# Altium footprint library Crystal_SMD.PcbLib: 3 footprints
Each footprint in its own frame and in the unit in brackets; x right, y up, seen from the top. Pads: shape width x height; smd on the part's side, far side on the other; paste and mask are expansions set on the pad; w line width, h text height; cw(c..) or ccw(c..) is an arc to the next point about the centre after c.
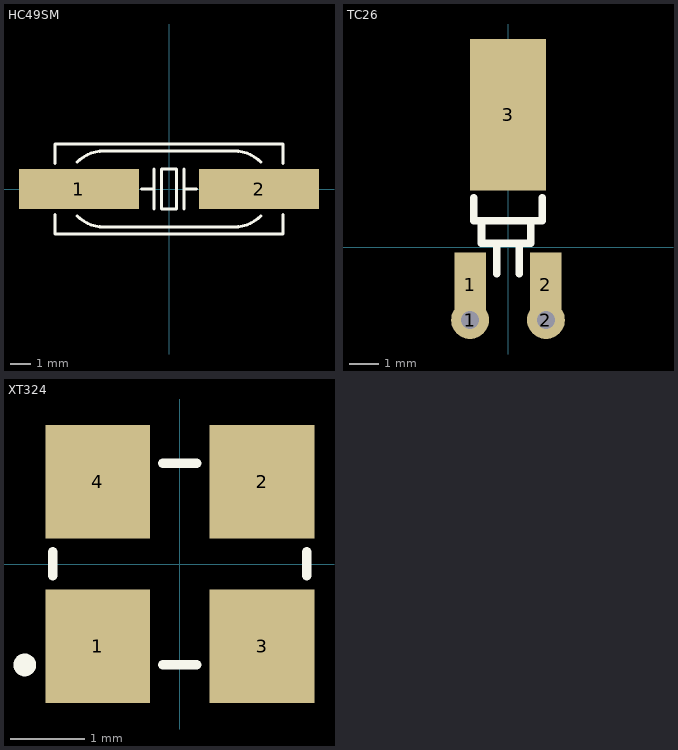
[diagram p0: the footprints below, top view; thin cyan lines are the x and y axes]

## HC49SM [mm] "SMD"
pads (2):
  rect 6x2 smd: 1(-4.5,0) 2(4.5,0)
Top Overlay:
  lines w0.152: -5.7,-1.27 -5.7,-2.25 5.7,-2.25 5.7,-1.27 ; -5.7,1.27 -5.7,2.25 5.7,2.25 5.7,1.27 ; -4.594,-1.344 ccw(c-3.25,0) -3.25,-1.9 3.25,-1.9 ccw(c3.25,0) 4.594,-1.344 ; -4.594,1.344 cw(c-3.25,0) -3.25,1.9 3.25,1.9 cw(c3.25,0) 4.594,1.344 ; -1.375,0 -0.75,0 ; -0.75,-1 -0.75,1 ; 0.75,-1 0.75,1 ; 0.75,0 1.375,0 ; -0.381,-1 -0.381,1 0.381,1 0.381,-1 -0.381,-1
3D body: height 3.52, standoff 0, extent -7.5,-2.25 7.5,2.25

## TC26 [mil]
pads (5):
  round 50 hole 24: 1(-50.2,-96.46) 2(50.2,-96.46)
  rect 42x86 smd: 1(-50,-50) 2(50,-50)
  rect 100x200 smd: 3(0,175)
Top Overlay:
  lines w10: -45,65 -45,35 ; -15,-35 -15,5 ; 15,-35 15,5 ; 45,65 45,35 ; -45,35 -35,35 -35,5 30,5 30,35 45,35 ; -45,35 45,35

## XT324 [mm]
pads (4):
  rect 1.4x1.524 smd: 1(-1.1,-1.1) 2(1.1,1.1) 3(1.1,-1.1) 4(-1.1,1.1)
Top Overlay:
  circle w0.152: c-2.075,-1.35 r0.076
  lines w0.127: -1.7,-0.159 -1.7,0.166 ; -0.225,-1.35 0.225,-1.35 ; -0.225,1.35 0.225,1.35 ; 1.7,-0.159 1.7,0.166
3D body: height 0.8, standoff 0, extent -1.65,-1.3 1.65,1.3